# EAGLE library part 2:1-MUX (library components)
2:1 Analog Multiplexer -- low selects A, high B
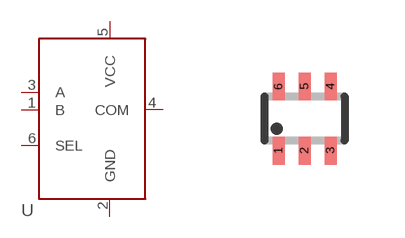
[diagram p36: symbol with the pads of SOT363_INFINEON; footprint SOT363_INFINEON]

Designator prefix U

## 2:1-MUX (DESCRIPTION: 2:1 Analog multiplexer; DIGIKEY-PN: 568-7765-1-ND; FOOTPRINT: SOT-363)  [SOT363_INFINEON]
1  B
2  GND
3  A
4  COM
5  VCC
6  SEL

## Footprint SOT363_INFINEON (pad centres in mm)
Small Outline Transistor; 6 leads Reflow soldering INFINEON, www.infineon.com/cmc_upload/0/000/010/257/eh_db_5b.pdf
smd 0.3 x 0.7: 1 -0.65,-0.8; 2 0,-0.8; 3 0.65,-0.8; 4 0.65,0.8; 5 0,0.8; 6 -0.65,0.8